# Altium footprint library diode_schottky.PcbLib: 5 footprints
Each footprint in its own frame and in the unit in brackets; x right, y up, seen from the top. Pads: shape width x height; smd on the part's side, far side on the other; paste and mask are expansions set on the pad; w line width, h text height; cw(c..) or ccw(c..) is an arc to the next point about the centre after c.
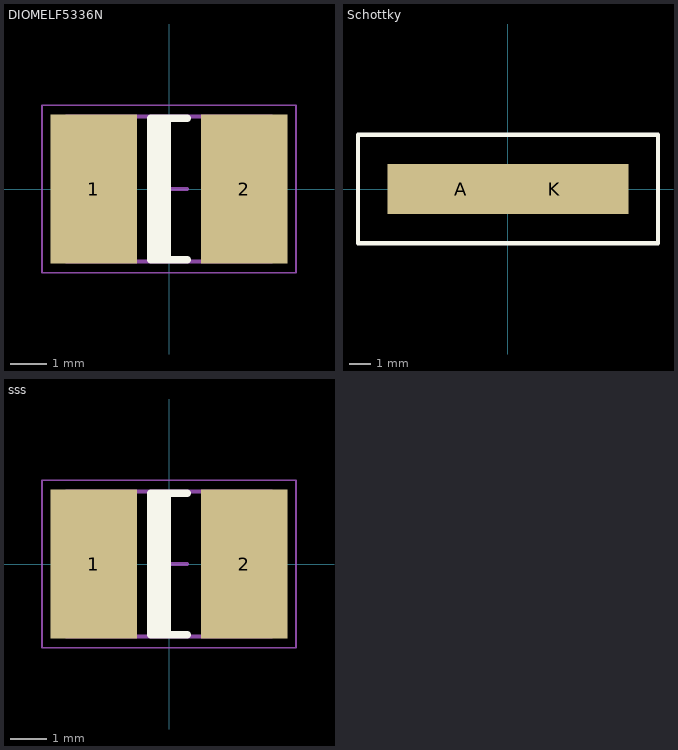
[diagram p0: the footprints below, top view; thin cyan lines are the x and y axes]

## DIOMELF5336N [mm] "MELF Diode, 2-Leads, Body 5.30x3.62mm, IPC Medium Density"
height 3.94
pads (2):
  rect 2.35x4.05 smd: 1(-2.05,0) 2(2.05,0)
Top Overlay:
  rectangle: -0.5,-1.925 0.05,1.925
  lines w0.2: 0.5,-1.925 -0.5,-1.925 -0.5,1.925 0.5,1.925
Mechanical 13:
  lines w0.1: -2.795,-1.97 2.795,-1.97 2.795,1.97 -2.795,1.97 -2.795,-1.97
Mechanical 15:
  lines w0.05: -3.45,-2.275 3.45,-2.275 3.45,2.275 -3.45,2.275 -3.45,-2.275
  lines w0.1: -0.5,0 0.5,0 ; 0,-0.5 0,0.5
3D body "DIOMELF5336N.step": height 3.62, standoff 0.01, extent -2.648,-1.807 2.648,1.807

## PCBComponent_1 - duplicate [mm]

## PCBComponent_1 - duplicate1 [mm]

## Schottky [mm]
pads (2):
  rect 6.8x2.3 smd: A(-2.15,0) K(2.15,0)
Top Overlay:
  lines w0.2: -6.9,-2.5 6.9,-2.5 6.9,2.5 -6.9,2.5 -6.9,0 -6.9,-2.5

## sss [mm] "MELF Diode, 2-Leads, Body 5.30x3.62mm, IPC Medium Density"
height 3.94
pads (2):
  rect 2.35x4.05 smd: 1(-2.05,0) 2(2.05,0)
Top Overlay:
  rectangle: -0.5,-1.925 0.05,1.925
  lines w0.2: 0.5,-1.925 -0.5,-1.925 -0.5,1.925 0.5,1.925
Mechanical 13:
  lines w0.1: -2.795,-1.97 2.795,-1.97 2.795,1.97 -2.795,1.97 -2.795,-1.97
Mechanical 15:
  lines w0.05: -3.45,-2.275 3.45,-2.275 3.45,2.275 -3.45,2.275 -3.45,-2.275
  lines w0.1: -0.5,0 0.5,0 ; 0,-0.5 0,0.5
3D body "DIOMELF5336N.step": height 3.62, standoff 0.01, extent -2.648,-1.807 2.648,1.807